# EAGLE library part HEADER_40 (library Flipdot)
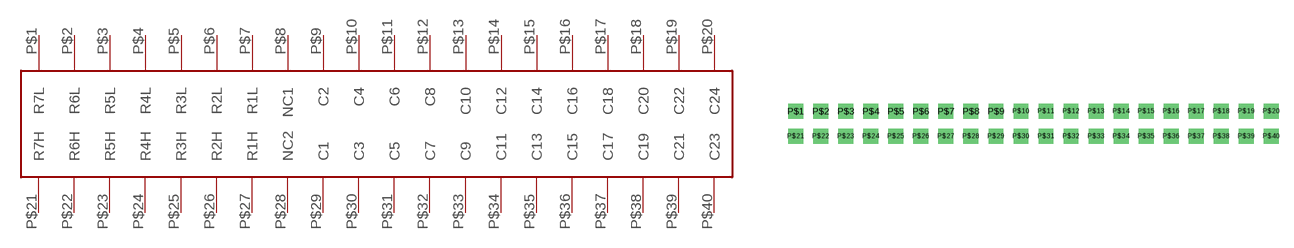
[diagram p4: symbol with the pads of HEADER_40; footprint HEADER_40]

Designator prefix -

## HEADER_40  [HEADER_40]
P$1  R7L
P$2  R6L
P$3  R5L
P$4  R4L
P$5  R3L
P$6  R2L
P$7  R1L
P$8  NC1
P$9  C2
P$10  C4
P$11  C6
P$12  C8
P$13  C10
P$14  C12
P$15  C14
P$16  C16
P$17  C18
P$18  C20
P$19  C22
P$20  C24
P$21  R7H
P$22  R6H
P$23  R5H
P$24  R4H
P$25  R3H
P$26  R2H
P$27  R1H
P$28  NC2
P$29  C1
P$30  C3
P$31  C5
P$32  C7
P$33  C9
P$34  C11
P$35  C13
P$36  C15
P$37  C17
P$38  C19
P$39  C21
P$40  C23

## Footprint HEADER_40 (pad centres in mm)
drill 1 square: P$1 -22.86,0; P$2 -20.32,0; P$3 -17.78,0; P$4 -15.24,0; P$5 -12.7,0; P$6 -10.16,0; P$7 -7.62,0; P$8 -5.08,0; P$9 -2.54,0; P$10 0,0; P$11 2.54,0; P$12 5.08,0; P$13 7.62,0; P$14 10.16,0; P$15 12.7,0; P$16 15.24,0; P$17 17.78,0; P$18 20.32,0; P$19 22.86,0; P$20 25.4,0; P$21 -22.86,-2.54; P$22 -20.32,-2.54; P$23 -17.78,-2.54; P$24 -15.24,-2.54; P$25 -12.7,-2.54; P$26 -10.16,-2.54; P$27 -7.62,-2.54; P$28 -5.08,-2.54; P$29 -2.54,-2.54; P$30 0,-2.54; P$31 2.54,-2.54; P$32 5.08,-2.54; P$33 7.62,-2.54; P$34 10.16,-2.54; P$35 12.7,-2.54; P$36 15.24,-2.54; P$37 17.78,-2.54; P$38 20.32,-2.54; P$39 22.86,-2.54; P$40 25.4,-2.54